# Altium schematic symbol library SamacSys.SchLib: 27 symbols
Pins are listed as number, name and electrical type; pins without a type are passive.

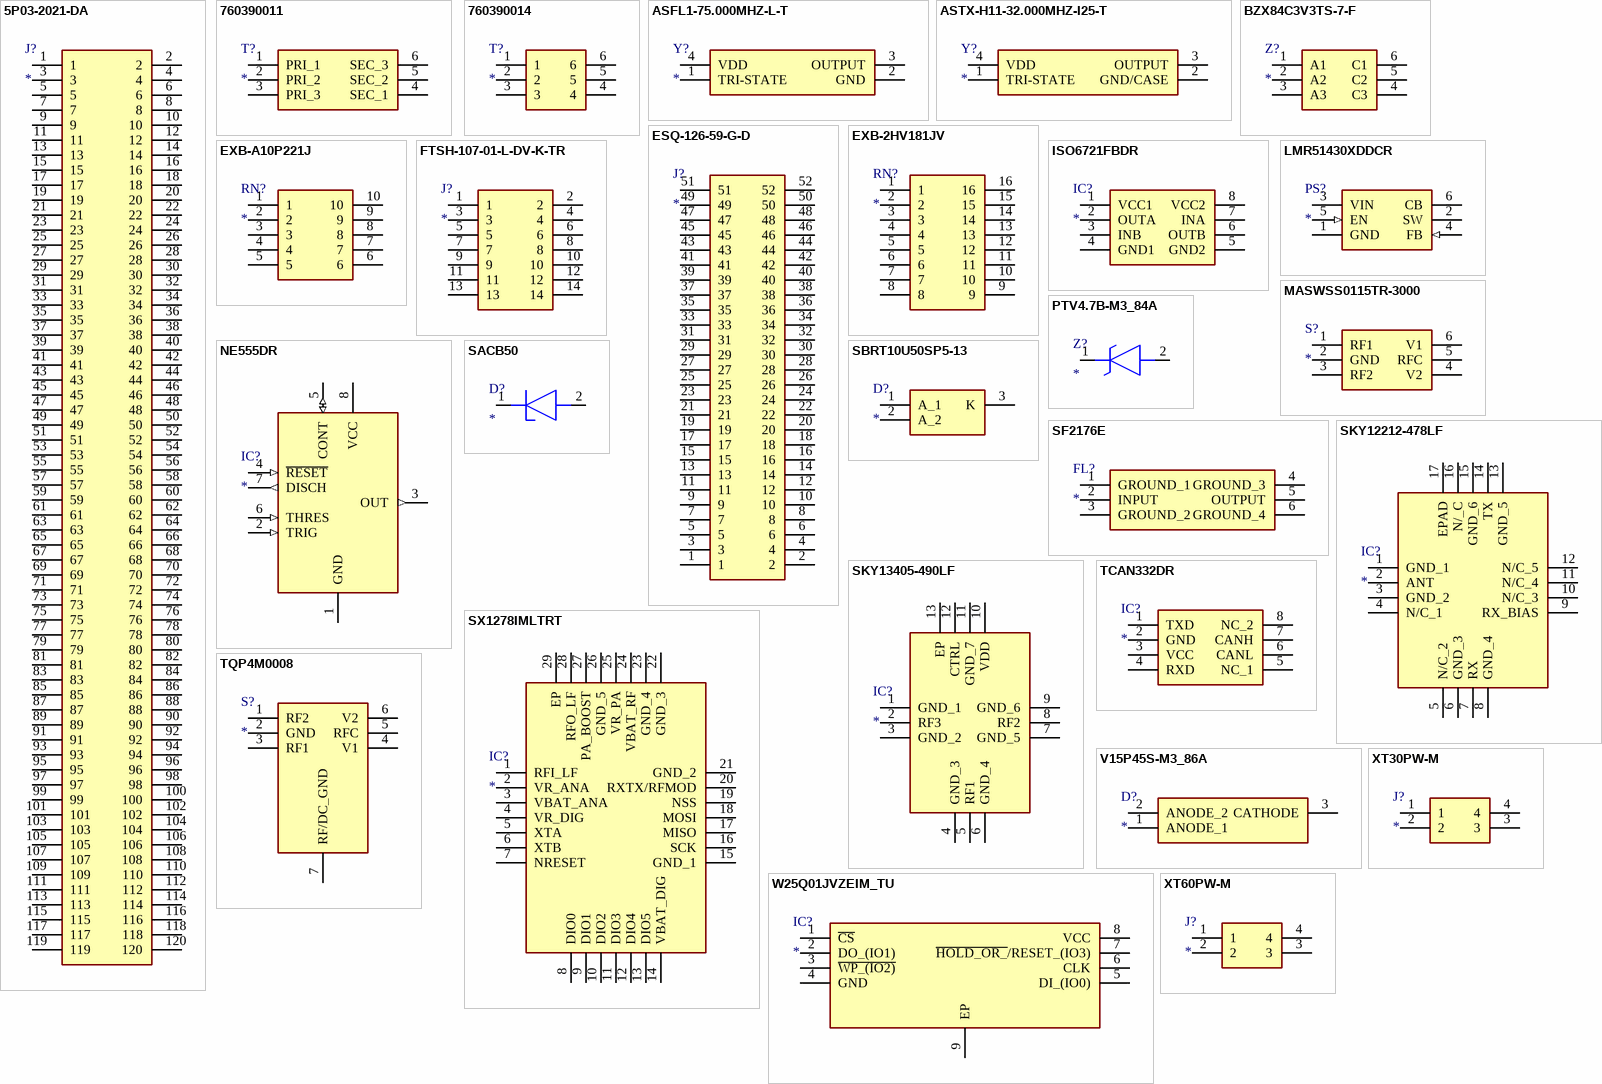
[diagram p0: symbols 5P03-2021-DA to XT60PW-M]

## 5P03-2021-DA
designator J?
Connector; Manufacturer_Name: 3M; Manufacturer_Part_Number: 5P03-2021-DA; Description: Conn PC/104 Plus Connector 120 POS 2mm Press Fit ST Thru-Hole Box; Datasheet Link: https://www.arrow.com/en/products/5p03-2021-da/3m; Height: 9.55mm; Mouser Part Number: 517-5P03-2021-DA; Mouser Price/Stock: https://www.mouser.co.uk/ProductDetail/3M-Electronic-Solutions-Division/5P03-2021-DA?qs=yDj%2FBb4wmPFz9su5zt2B1Q%3D%3D; Arrow Part Number: 5P03-2021-DA; Arrow Price/Stock: https://www.arrow.com/en/products/5p03-2021-da/3m?region=nac
footprint RHDR120W70P200_4X30_6040X800X955P
pins: 1, 2, 3, 4, 5, 6, 7, 8, 9, 10, 11, 12, 13, 14, 15, 16, 17, 18, 19, 20, 21, 22, 23, 24, 25, 26, 27, 28, 29, 30, 31, 32, 33, 34, 35, 36, 37, 38, 39, 40, 41, 42, 43, 44, 45, 46, 47, 48, 49, 50, 51, 52, 53, 54, 55, 56, 57, 58, 59, 60, 61, 62, 63, 64, 65, 66, 67, 68, 69, 70, 71, 72, 73, 74, 75, 76, 77, 78, 79, 80, 81, 82, 83, 84, 85, 86, 87, 88, 89, 90, 91, 92, 93, 94, 95, 96, 97, 98, 99, 100, 101, 102, 103, 104, 105, 106, 107, 108, 109, 110, 111, 112, 113, 114, 115, 116, 117, 118, 119, 120

## 760390011
designator T?
Transformer; Manufacturer_Name: Wurth Elektronik; Manufacturer_Part_Number: 760390011; Datasheet Link: https://katalog.we-online.de/ctm/datasheet/760390011.pdf; Height: 4.19mm; Mouser Part Number: 710-760390011; Mouser Price/Stock: https://www.mouser.co.uk/ProductDetail/Wurth-Elektronik/760390011?qs=wElim4iM2pivmWQfwCSt%252Bw%3D%3D
footprint 760390011
pins: 1 PRI_1, 2 PRI_2, 3 PRI_3, 4 SEC_1, 5 SEC_2, 6 SEC_3

## 760390014
designator T?
Transformer; Manufacturer_Name: Wurth Elektronik; Manufacturer_Part_Number: 760390014; Datasheet Link: http://katalog.we-online.de/ctm/datasheet/760390014.pdf; Mouser Part Number: 710-760390014; Mouser Price/Stock: https://www.mouser.co.uk/ProductDetail/Wurth-Elektronik/760390014?qs=wElim4iM2pgaRMAKec%2FMSQ%3D%3D
footprint 760390015
pins: 1, 2, 3, 4, 5, 6

## ASFL1-75.000MHZ-L-T
designator Y?
Crystal or Oscillator; Manufacturer_Name: ABRACON; Manufacturer_Part_Number: ASFL1-75.000MHZ-L-T; Datasheet Link: https://abracon.com/Oscillators/ASFL1.pdf; Height: 1.3mm
footprint ASFL1
pins: 1 TRI-STATE, 2 GND, 3 OUTPUT, 4 VDD

## ASTX-H11-32.000MHZ-I25-T
designator Y?
Crystal or Oscillator; Manufacturer_Name: ABRACON; Manufacturer_Part_Number: ASTX-H11-32.000MHZ-I25-T; Datasheet Link: https://abracon.com/Oscillators/ASTX-H11.pdf; Height: 1.1mm; Mouser Part Number: 815-ASTXH1132I25T; Mouser Price/Stock: https://www.mouser.com/Search/Refine.aspx?Keyword=815-ASTXH1132I25T; Arrow Part Number: ASTX-H11-32.000MHZ-I25-T; Arrow Price/Stock: https://www.arrow.com/en/products/astx-h11-32.000mhz-i25-t/abracon
footprint ASTXH1124576MHZT
pins: 1 TRI-STATE, 2 GND/CASE, 3 OUTPUT, 4 VDD

## BZX84C3V3TS-7-F
designator Z?
Zener Diode; Manufacturer_Name: Diodes Incorporated; Manufacturer_Part_Number: BZX84C3V3TS-7-F; Datasheet Link: https://www.diodes.com//assets/Datasheets/ds30187.pdf; Height: 1.1mm; Mouser Part Number: 621-BZX84C3V3TS-7-F; Mouser Price/Stock: https://www.mouser.co.uk/ProductDetail/Diodes-Incorporated/BZX84C3V3TS-7-F?qs=zLeapIUCO8Qc268QPGdoKA%3D%3D; Arrow Part Number: BZX84C3V3TS-7-F; Arrow Price/Stock: https://www.arrow.com/en/products/bzx84c3v3ts-7-f/diodes-incorporated
footprint SOT65P210X110-6N
pins: 1 A1, 2 A2, 3 A3, 4 C3, 5 C2, 6 C1

## ESQ-126-59-G-D
designator J?
Connector; Manufacturer_Name: SAMTEC; Manufacturer_Part_Number: ESQ-126-59-G-D; Datasheet Link: http://suddendocs.samtec.com/prints/esq-1xx-xx-x-x-xxx-xx-x-xx-mkt.pdf
footprint ESQ-126-Y-X-D
pins: 1, 2, 3, 4, 5, 6, 7, 8, 9, 10, 11, 12, 13, 14, 15, 16, 17, 18, 19, 20, 21, 22, 23, 24, 25, 26, 27, 28, 29, 30, 31, 32, 33, 34, 35, 36, 37, 38, 39, 40, 41, 42, 43, 44, 45, 46, 47, 48, 49, 50, 51, 52

## EXB-2HV181JV
designator RN?
Resistor Network; Manufacturer_Name: Panasonic; Manufacturer_Part_Number: EXB-2HV181JV; Datasheet Link: https://industrial.panasonic.com/cdbs/www-data/pdf/AOC0000/AOC0000C14.pdf; Mouser Part Number: 667-EXB-2HV181JV; Mouser Price/Stock: https://www.mouser.co.uk/ProductDetail/Panasonic/EXB-2HV181JV?qs=cttFivMKqWy%252BqZlenEPWsA%3D%3D; Arrow Part Number: EXB-2HV181JV; Arrow Price/Stock: https://www.arrow.com/en/products/exb-2hv181jv/panasonic
footprint EXB2HV_1
pins: 1, 2, 3, 4, 5, 6, 7, 8, 9, 10, 11, 12, 13, 14, 15, 16

## EXB-A10P221J
designator RN?
Resistor Network; Manufacturer_Name: Panasonic; Manufacturer_Part_Number: EXB-A10P221J; Datasheet Link: https://industrial.panasonic.com/cdbs/www-data/pdf/AOC0000/AOC0000C12.pdf; Height: 0.65mm; Mouser Part Number: 667-EXB-A10P221J; Mouser Price/Stock: https://www.mouser.co.uk/ProductDetail/Panasonic/EXB-A10P221J?qs=uA7cY%2Fh6FfXctfKoaMQTnw%3D%3D; Arrow Part Number: EXB-A10P221J; Arrow Price/Stock: https://www.arrow.com/en/products/exb-a10p221j/panasonic?region=nac
footprint EXBA10P221J
pins: 1, 2, 3, 4, 5, 6, 7, 8, 9, 10

## FTSH-107-01-L-DV-K-TR
designator J?
Connector; Manufacturer_Name: SAMTEC; Manufacturer_Part_Number: FTSH-107-01-L-DV-K-TR; Datasheet Link: https://suddendocs.samtec.com/prints/ftsh-1xx-xx-xxx-dv-xxx-xxx-x-xx-mkt.pdf?_gl=1*mdiyn1*_ga*MTcyMTUxMTIwMy4xNzEyMDQxMTc2*_ga_3KFNZC07WW*MTcxMjEzMDIxOS4yLjEuMTcxMjEzMDI1NC4yNS4wLjA.; Height: 6.25mm; Mouser Part Number: 200-FTSH10701LDVKTR; Mouser Price/Stock: https://www.mouser.co.uk/ProductDetail/Samtec/FTSH-107-01-L-DV-K-TR?qs=%252BZP6%2F%252BtExtDlh0wyxE013Q%3D%3D; Arrow Part Number: FTSH-107-01-L-DV-K-TR; Arrow Price/Stock: https://www.arrow.com/en/products/ftsh-107-01-l-dv-k-tr/samtec?utm_currency=USD&region=nac
footprint FTSH10701LDVKTR
pins: 1, 2, 3, 4, 5, 6, 7, 8, 9, 10, 11, 12, 13, 14

## ISO6721FBDR
designator IC?
Integrated Circuit; Manufacturer_Name: Texas Instruments; Manufacturer_Part_Number: ISO6721FBDR; Datasheet Link: https://www.ti.com/lit/ds/symlink/iso6721.pdf; Height: 1.75mm; Mouser Part Number: 595-ISO6721FBDR; Mouser Price/Stock: https://www.mouser.co.uk/ProductDetail/Texas-Instruments/ISO6721FBDR?qs=eP2BKZSCXI46xuGSr1x3iQ%3D%3D; Arrow Part Number: ISO6721FBDR; Arrow Price/Stock: https://www.arrow.com/en/products/iso6721fbdr/texas-instruments?utm_currency=USD&region=nac
footprint SOIC127P600X175-8N
pins: 1 VCC1, 2 OUTA, 3 INB, 4 GND1, 5 GND2, 6 OUTB, 7 INA, 8 VCC2

## LMR51430XDDCR
designator PS?
Power Supply; Manufacturer_Name: Texas Instruments; Manufacturer_Part_Number: LMR51430XDDCR; Datasheet Link: https://www.ti.com/lit/ds/symlink/lmr51430.pdf?HQS=dis-mous-null-mousermode-dsf-pf-null-wwe&ts=1665567212982&ref_url=https%253A%252F%252Fwww.mouser.co.uk%252F; Height: 1.1mm; Mouser Part Number: 595-LMR51430XDDCR; Mouser Price/Stock: https://www.mouser.co.uk/ProductDetail/Texas-Instruments/LMR51430XDDCR?qs=vvQtp7zwQdP8miJIr5Aupg%3D%3D; Arrow Part Number: LMR51430XDDCR; Arrow Price/Stock: https://www.arrow.com/en/products/lmr51430xddcr/texas-instruments?utm_currency=USD&region=nac
footprint SOT95P280X110-6N
pins: 1 GND (power), 2 SW (power), 3 VIN (power), 4 FB (in), 5 EN (in), 6 CB (power)

## MASWSS0115TR-3000
designator S?
Switch; Manufacturer_Name: MACOM; Manufacturer_Part_Number: MASWSS0115TR-3000; Datasheet Link: http://cdn.macom.com/datasheets/MASWSS0115.pdf; Height: 1.1mm; Mouser Part Number: 937-MASWSS0115-T; Mouser Price/Stock: https://www.mouser.co.uk/ProductDetail/MACOM/MASWSS0115TR-3000?qs=3Wmz%2FrCSAaEflvnPFG8Leg%3D%3D
footprint SOT65P210X110-6N
pins: 1 RF1, 2 GND (power), 3 RF2, 4 V2, 5 RFC, 6 V1

## NE555DR
designator IC?
Integrated Circuit; Manufacturer_Name: Texas Instruments; Manufacturer_Part_Number: NE555DR; Datasheet Link: http://www.ti.com/lit/ds/symlink/ne555.pdf; Height: 1.75mm; Mouser Part Number: 595-NE555DR; Mouser Price/Stock: https://www.mouser.com/Search/Refine.aspx?Keyword=595-NE555DR; RS Part Number: 1218414; RS Price/Stock: http://uk.rs-online.com/web/p/products/1218414
footprint SOIC127P600X175-8N
pins: 1 GND (power), 2 TRIG (in), 3 OUT (out), 4 ~{RESET} (in), 5 CONT (io), 6 THRES (in), 7 DISCH (out), 8 VCC (power)

## PTV4.7B-M3_84A
designator Z?
Zener Diode; Manufacturer_Name: Vishay; Manufacturer_Part_Number: PTV4.7B-M3/84A; Datasheet Link: https://www.vishay.com/docs/88484/ptvxxb.pdf; Height: 1.15mm; Mouser Part Number: 625-PTV4.7B-M3/84A; Mouser Price/Stock: https://www.mouser.co.uk/ProductDetail/Vishay-General-Semiconductor/PTV4.7B-M3-84A?qs=oGkaSCw6xsrYFqV6TtqIxg%3D%3D; Arrow Part Number: PTV4.7B-M3/84A; Arrow Price/Stock: https://www.arrow.com/en/products/ptv4.7b-m384a/vishay?region=nac
footprint PTV47BM384A
pins: 1 K, 2 A

## SACB50
designator D?
Diode ESD (Uni-directional); Manufacturer_Name: LITTELFUSE; Manufacturer_Part_Number: SACB50; Datasheet Link: https://www.littelfuse.com/~/media/electronics/datasheets/tvs_diodes/littelfuse_tvs_diode_sacb_datasheet.pdf.pdf; Height: 2.44mm; Mouser Part Number: 576-SACB50; Mouser Price/Stock: https://www.mouser.co.uk/ProductDetail/Littelfuse/SACB50?qs=3K5NeMAIBDnrExXAC8XSjg%3D%3D; Arrow Part Number: SACB50; Arrow Price/Stock: https://www.arrow.com/en/products/sacb50/littelfuse
footprint DIOM5436X244N
pins: 1 K, 2 A

## SBRT10U50SP5-13
designator D?
Diode; Manufacturer_Name: Diodes Incorporated; Manufacturer_Part_Number: SBRT10U50SP5-13; Datasheet Link: https://www.diodes.com/assets/Datasheets/SBRT10U50SP5.pdf; Height: 1.15mm; Mouser Part Number: 621-SBRT10U50SP5-13; Mouser Price/Stock: https://www.mouser.co.uk/ProductDetail/Diodes-Incorporated/SBRT10U50SP5-13?qs=M%2FOdCRO8QQ2p%252BnTDeuohyA%3D%3D; Arrow Part Number: SBRT10U50SP5-13; Arrow Price/Stock: https://www.arrow.com/en/products/sbrt10u50sp5-13/diodes-incorporated
footprint SBRT10U50SP513
pins: 1 A_1, 2 A_2, 3 K

## SF2176E
designator FL?
Filter; Manufacturer_Name: RFMi; Manufacturer_Part_Number: SF2176E; Datasheet Link: https://au.mouser.com/datasheet/2/1100/sf2176e-1917482.pdf; Height: 1.38mm; Mouser Part Number: 198-SF2176E; Mouser Price/Stock: https://www.mouser.co.uk/ProductDetail/RFMi/SF2176E?qs=zW32dvEIR3t63N0a%2FogqeQ%3D%3D
footprint SF2176E
pins: 1 GROUND_1, 2 INPUT, 3 GROUND_2, 4 GROUND_3, 5 OUTPUT, 6 GROUND_4

## SKY12212-478LF
designator IC?
Integrated Circuit; Manufacturer_Name: Skyworks; Manufacturer_Part_Number: SKY12212-478LF; Datasheet Link: https://datasheet.datasheetarchive.com/originals/distributors/DKDS-19/379195.pdf; Height: 1.6mm; Mouser Part Number: 873-SKY12212-478LF; Mouser Price/Stock: https://www.mouser.co.uk/ProductDetail/Skyworks-Solutions-Inc/SKY12212-478LF?qs=WMHGlxXAKT9ujZ70fnN4Pw%3D%3D
footprint QFN65P400X400X160-17N-D
pins: 1 GND_1, 2 ANT, 3 GND_2, 4 N/C_1, 5 N/C_2, 6 GND_3, 7 RX, 8 GND_4, 9 RX_BIAS, 10 N/C_3, 11 N/C_4, 12 N/C_5, 13 GND_5, 14 TX, 15 GND_6, 16 N/_C, 17 EPAD

## SKY13405-490LF
designator IC?
Integrated Circuit; Manufacturer_Name: Skyworks; Manufacturer_Part_Number: SKY13405-490LF; Datasheet Link: https://datasheet.datasheetarchive.com/originals/distributors/DKDS-19/379224.pdf; Height: 1mm; Mouser Part Number: 873-SKY13405-490LF; Mouser Price/Stock: https://www.mouser.co.uk/ProductDetail/Skyworks-Solutions-Inc/SKY13405-490LF?qs=uvHW8qpSFOSQ0mezdDI4Ag%3D%3D
footprint SKY13405490LF
pins: 1 GND_1, 2 RF3, 3 GND_2, 4 GND_3, 5 RF1, 6 GND_4, 7 GND_5, 8 RF2, 9 GND_6, 10 VDD, 11 GND_7, 12 CTRL, 13 EP

## SX1278IMLTRT
designator IC?
Integrated Circuit; Manufacturer_Name: SEMTECH; Manufacturer_Part_Number: SX1278IMLTRT; Datasheet Link: https://datasheet.datasheetarchive.com/originals/distributors/DKDS-37/728736.pdf; Height: 1mm; Mouser Part Number: 947-SX1278IMLTRT; Mouser Price/Stock: https://www.mouser.co.uk/ProductDetail/Semtech/SX1278IMLTRT?qs=rBWM4%252BvDhIee37k32BFwWg%3D%3D; Arrow Part Number: SX1278IMLTRT; Arrow Price/Stock: https://www.arrow.com/en/products/sx1278imltrt/semtech?utm_currency=USD&region=nac
footprint QFN65P600X600X100-29N-D
pins: 1 RFI_LF, 2 VR_ANA, 3 VBAT_ANA, 4 VR_DIG, 5 XTA, 6 XTB, 7 NRESET, 8 DIO0, 9 DIO1, 10 DIO2, 11 DIO3, 12 DIO4, 13 DIO5, 14 VBAT_DIG, 15 GND_1, 16 SCK, 17 MISO, 18 MOSI, 19 NSS, 20 RXTX/RFMOD, 21 GND_2, 22 GND_3, 23 GND_4, 24 VBAT_RF, 25 VR_PA, 26 GND_5, 27 PA_BOOST, 28 RFO_LF, 29 EP

## TCAN332DR
designator IC?
Integrated Circuit; Manufacturer_Name: Texas Instruments; Manufacturer_Part_Number: TCAN332DR; Datasheet Link: http://www.ti.com/lit/ds/symlink/tcan332.pdf; Height: 1.75mm; Mouser Part Number: 595-TCAN332DR; Mouser Price/Stock: https://www.mouser.co.uk/ProductDetail/Texas-Instruments/TCAN332DR?qs=n%252BTO0c4TDSYIUeM9WmVMtA%3D%3D; Arrow Part Number: TCAN332DR; Arrow Price/Stock: https://www.arrow.com/en/products/tcan332dr/texas-instruments?region=nac
footprint SOIC127P600X175-8N
pins: 1 TXD, 2 GND, 3 VCC, 4 RXD, 5 NC_1, 6 CANL, 7 CANH, 8 NC_2

## TQP4M0008
designator S?
Switch; Manufacturer_Name: Qorvo; Manufacturer_Part_Number: TQP4M0008; Datasheet Link: https://www.mouser.in/datasheet/2/412/TQP4M0008_Data_Sheet-1518377.pdf; Height: 0.9mm; Mouser Part Number: 772-TQP4M0008; Mouser Price/Stock: https://www.mouser.co.uk/ProductDetail/Qorvo/TQP4M0008?qs=z4bnopryTCJhKVxkPpcwfQ%3D%3D
footprint SON50P200X200X90-7N-D
pins: 1 RF2, 2 GND, 3 RF1, 4 V1, 5 RFC, 6 V2, 7 RF/DC_GND

## V15P45S-M3_86A
designator D?
Schottky Diode; Manufacturer_Name: Vishay; Manufacturer_Part_Number: V15P45S-M3/86A; Datasheet Link: https://www.vishay.com/docs/89343/v15p45s-m3.pdf; Height: 1.2mm; Mouser Part Number: 625-V15P45S-M3/86A; Mouser Price/Stock: https://www.mouser.co.uk/ProductDetail/Vishay-General-Semiconductor/V15P45S-M3-86A?qs=JVB2vxgwrwznQD5HmGUmrw%3D%3D; Arrow Part Number: V15P45S-M3/86A; Arrow Price/Stock: https://www.arrow.com/en/products/v15p45s-m386a/vishay?region=nac
footprint V15P45SM386A
pins: 1 ANODE_1, 2 ANODE_2, 3 CATHODE

## W25Q01JVZEIM_TU
designator IC?
Integrated Circuit; Manufacturer_Name: Winbond; Manufacturer_Part_Number: W25Q01JVZEIM TU; Datasheet Link: https://www.mouser.jp/datasheet/2/949/W25Q01JV_SPI_RevB_11132019-1760416.pdf; Height: 0.8mm; Mouser Part Number: 454-W25Q01JVZEIMTU; Mouser Price/Stock: https://www.mouser.co.uk/ProductDetail/Winbond/W25Q01JVZEIM-TU/?qs=YwPsRIUVAOcsCshGUAsYXg%3D%3D
footprint SON127P800X600X80-9N-D
pins: 1 ~{CS}, 2 DO_(IO1), 3 ~{WP_(IO2)}, 4 GND, 5 DI_(IO0), 6 CLK, 7 ~{HOLD_OR_}/RESET_(IO3), 8 VCC, 9 EP

## XT30PW-M
designator J?
Connector; Manufacturer_Name: Amass; Manufacturer_Part_Number: XT30PW-M; Datasheet Link: https://www.tme.eu/sl/Document/ce4077e36b79046da520ca73227e15de/XT30PW%20SPEC.pdf; Height: 5mm
footprint XT30PWM
pins: 1, 2, 3, 4

## XT60PW-M
designator J?
Connector; Manufacturer_Name: Changzou Amass Elec; Manufacturer_Part_Number: XT60PW-M; Datasheet Link: https://www.tme.eu/Document/9b8d0c5eb7094295f3d3112c214d3ade/XT60PW%20SPEC.pdf; Height: 8.4mm
footprint XT60PWM
pins: 1, 2, 3, 4